# Altium schematic symbol library TI DAC081S101CIMM.SchLib: 1 symbol
Pins are listed as number, name and electrical type; pins without a type are passive.

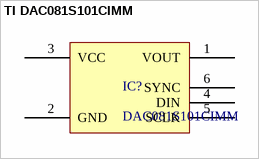
[diagram p0: symbol TI DAC081S101CIMM]

## TI DAC081S101CIMM
designator IC?, comment DAC081S101CIMM
DAC081S101 8-Bit Micro Power Digital-to-Analog Converter with Rail-to-Rail Output
pins: 1 VOUT, 2 GND, 3 VCC, 4 DIN, 5 SCLK, 6 SYNC